# EAGLE library part JST-PUD-30 (library con-JST-PUD)
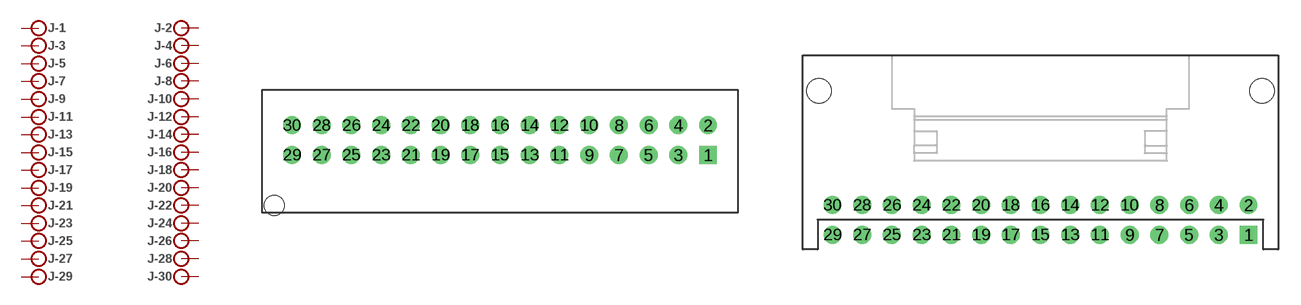
[diagram p0: symbol with the pads of B30B-PUDSS-1; footprints B30B-PUDSS-1, S30B-PUDSS-1]

Designator prefix J; gates -2=PIN -1=PINL -3=PINL -4=PIN -5=PINL -6=PIN -7=PINL -8=PIN -9=PINL -10=PIN -11=PINL -12=PIN -13=PINL -14=PIN -15=PINL -16=PIN -17=PINL -18=PIN -19=PINL -20=PIN -21=PINL -22=PIN -23=PINL -24=PIN -25=PINL -26=PIN -27=PINL -28=PIN -29=PINL -30=PIN

## JST-PUD-30-THV (MF: JST; MPN: B30B-PUDSS-1)  [B30B-PUDSS-1]
1  -1:P
2  -2:P
3  -3:P
4  -4:P
5  -5:P
6  -6:P
7  -7:P
8  -8:P
9  -9:P
10  -10:P
11  -11:P
12  -12:P
13  -13:P
14  -14:P
15  -15:P
16  -16:P
17  -17:P
18  -18:P
19  -19:P
20  -20:P
21  -21:P
22  -22:P
23  -23:P
24  -24:P
25  -25:P
26  -26:P
27  -27:P
28  -28:P
29  -29:P
30  -30:P

## JST-PUD-30-THRA (MF: JST; MPN: S30B-PUDSS-1)  [S30B-PUDSS-1]
Pads as for B30B-PUDSS-1

## Footprint B30B-PUDSS-1 (pad centres in mm)
drill 0.7 square: 1 14,-1
drill 0.7: 2 14,1; 3 12,-1; 4 12,1; 5 10,-1; 6 10,1; 7 8,-1; 8 8,1; 9 6,-1; 10 6,1; 11 4,-1; 12 4,1; 13 2,-1; 14 2,1; 15 0,-1; 16 0,1; 17 -2,-1; 18 -2,1; 19 -4,-1; 20 -4,1; 21 -6,-1; 22 -6,1; 23 -8,-1; 24 -8,1; 25 -10,-1; 26 -10,1; 27 -12,-1; 28 -12,1; 29 -14,-1; 30 -14,1
hole 1.35 at -15.2,-4.4

## Footprint S30B-PUDSS-1 (pad centres in mm)
drill 0.7 square: 1 14,-1
drill 0.7: 2 14,1; 3 12,-1; 4 12,1; 5 10,-1; 6 10,1; 7 8,-1; 8 8,1; 9 6,-1; 10 6,1; 11 4,-1; 12 4,1; 13 2,-1; 14 2,1; 15 0,-1; 16 0,1; 17 -2,-1; 18 -2,1; 19 -4,-1; 20 -4,1; 21 -6,-1; 22 -6,1; 23 -8,-1; 24 -8,1; 25 -10,-1; 26 -10,1; 27 -12,-1; 28 -12,1; 29 -14,-1; 30 -14,1
hole 1.65 at -14.9,8.7
hole 1.65 at 14.9,8.7